# Altium integrated library L298N.IntLib: 1 symbol
Pins are listed as number, name and electrical type; pins without a type are passive.

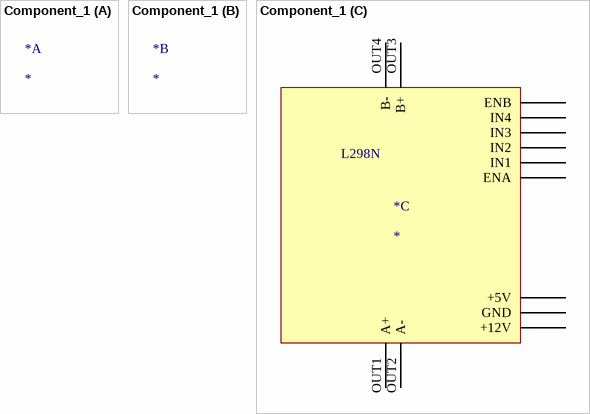
[diagram p0: symbol Component_1]

## Component_1
designator *
footprint PCBComponent_1
part C pins: +5V, +12V, ENA, ENB, GND, IN1, IN2, IN3, IN4, OUT1 A+, OUT2 A-, OUT3 B+, OUT4 B-
part C text: L298N